# EAGLE library part PMW3901MB-TXQT (library PMW3901MB-TXQT)
PMW3901MB-TXQT Source: Datasheet <http://www.pixart.com.tw/upload/POT0189-PMW3901MB-TXQT-DS-R1.10-200617 (NonNDA)_20170720181537_20170802183402.pdf>
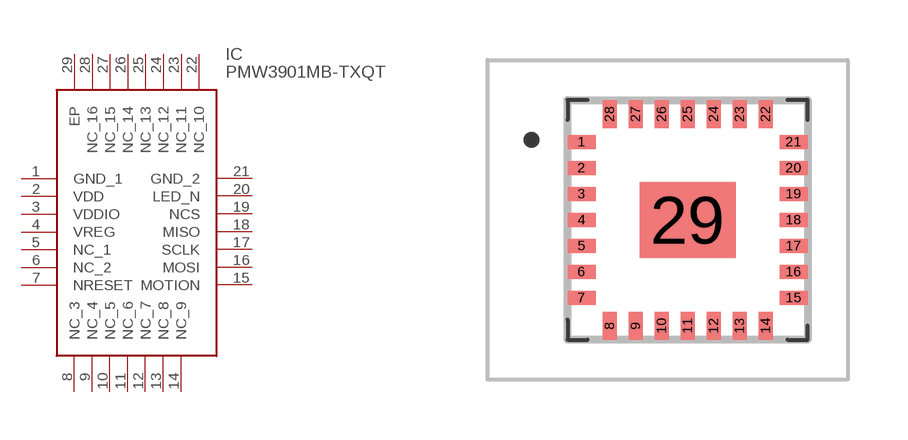
[diagram p0: symbol with the pads of PMW3901MBTXQT; footprint PMW3901MBTXQT]

Designator prefix IC

## PMW3901MB-TXQT (Arrow_Part_Number: PMW3901MB-TXQT; Description: PMW3901MB-TXQT; Height: 2.36mm; Manufacturer_Name: PixArt Imaging Inc.; Manufacturer_Part_Number: PMW3901MB-TXQT)  [PMW3901MBTXQT]
1  GND_1
2  VDD
3  VDDIO
4  VREG
5  NC_1
6  NC_2
7  NRESET
8  NC_3
9  NC_4
10  NC_5
11  NC_6
12  NC_7
13  NC_8
14  NC_9
15  MOTION
16  MOSI
17  SCLK
18  MISO
19  NCS
20  LED_N
21  GND_2
22  NC_10
23  NC_11
24  NC_12
25  NC_13
26  NC_14
27  NC_15
28  NC_16
29  EP

## Footprint PMW3901MBTXQT (pad centres in mm)
PMW3901MB-TXQT-2
smd 0.7 x 0.35: 1 -2.65,1.95; 2 -2.65,1.3; 3 -2.65,0.65; 4 -2.65,0; 5 -2.65,-0.65; 6 -2.65,-1.3; 7 -2.65,-1.95; 15 2.65,-1.95; 16 2.65,-1.3; 17 2.65,-0.65; 18 2.65,0; 19 2.65,0.65; 20 2.65,1.3; 21 2.65,1.95
smd 0.35 x 0.7: 8 -1.95,-2.65; 9 -1.3,-2.65; 10 -0.65,-2.65; 11 0,-2.65; 12 0.65,-2.65; 13 1.3,-2.65; 14 1.95,-2.65; 22 1.95,2.65; 23 1.3,2.65; 24 0.65,2.65; 25 0,2.65; 26 -0.65,2.65; 27 -1.3,2.65; 28 -1.95,2.65
smd 2.4 x 1.9: 29 0,0